# EAGLE library part LTC3543 (library PowerProducts)
LT-Spice library generated with : ltspice.ulp from: D:/Program Files (x86)/LTC/LTspiceIV/lib/sym/PowerProducts/LTC3544*.asy at 07.10.2012 18:17:22
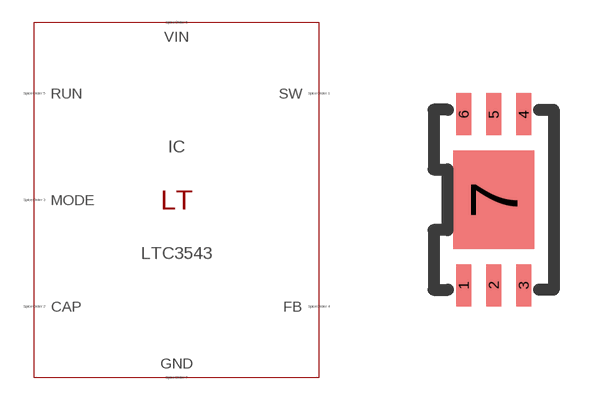
[diagram p236: symbol with the pads of DFN6(DCB); footprint DFN6(DCB)]

Designator prefix IC

## LTC3543 (SPICEMODEL: LTC3543.sub; SPICEPREFIX: X; VALUE2: LTC3543)  [DFN6(DCB)]
1  SW  pas
2  CAP  pas
3  MODE  pas
4  FB  pas
5  RUN  pas
6  VIN  pas
7  GND  pas

## Footprint DFN6(DCB) (pad centres in mm)
Package generated from: DFN6(DCB).asc (!PADS-POWERPCB-V5.0-BASIC! DESIGN DATABASE ASCII FILE 1.0) with :import-pads-powerpcb-v5.ulp Version 1.0.1 at 04.10.2012 14:11:17
smd 0.375 x 1.05: 1 -0.75,-2.138; 2 0,-2.138; 3 0.75,-2.138; 4 0.75,2.138; 5 0,2.138; 6 -0.75,2.138
smd 2.025 x 2.475: 7 0,0